# Altium footprint library Relays.PcbLib: 2 footprints
Each footprint in its own frame and in the unit in brackets; x right, y up, seen from the top. Pads: shape width x height; smd on the part's side, far side on the other; paste and mask are expansions set on the pad; w line width, h text height; cw(c..) or ccw(c..) is an arc to the next point about the centre after c.
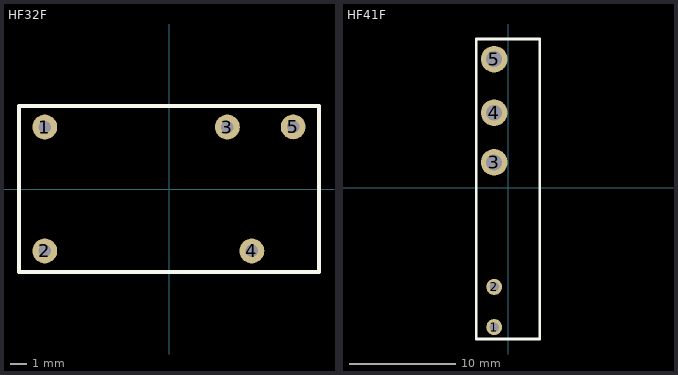
[diagram p0: the footprints below, top view; thin cyan lines are the x and y axes]

## HF32F [mil]
pads (5):
  round 60 hole 30: 1(-300,149.61) 2(-300,-149.61) 3(140.94,149.61) 4(200,-149.61) 5(300,150)
Top Overlay:
  lines w10: -362.2,-200.79 362.2,-200.79 362.2,200.79 -362.2,200.79 -362.2,-200.79

## HF41F [mm]
pads (5):
  round 1.5 hole 0.9: 1(-1.3,-13.1) 2(-1.3,-9.32)
  round 2.5 hole 1.5: 3(-1.3,2.4) 4(-1.3,7.06) 5(-1.3,12.1)
Top Overlay:
  lines w0.254: -3,-14.224 -3,14 3,14 3,-14.224 1.724,-14.224 0.526,-14.224 -0.526,-14.224 -1.724,-14.224 -3,-14.224